# Altium schematic symbol library my_lib.SchLib: 71 symbols
Pins are listed as number, name and electrical type; pins without a type are passive.

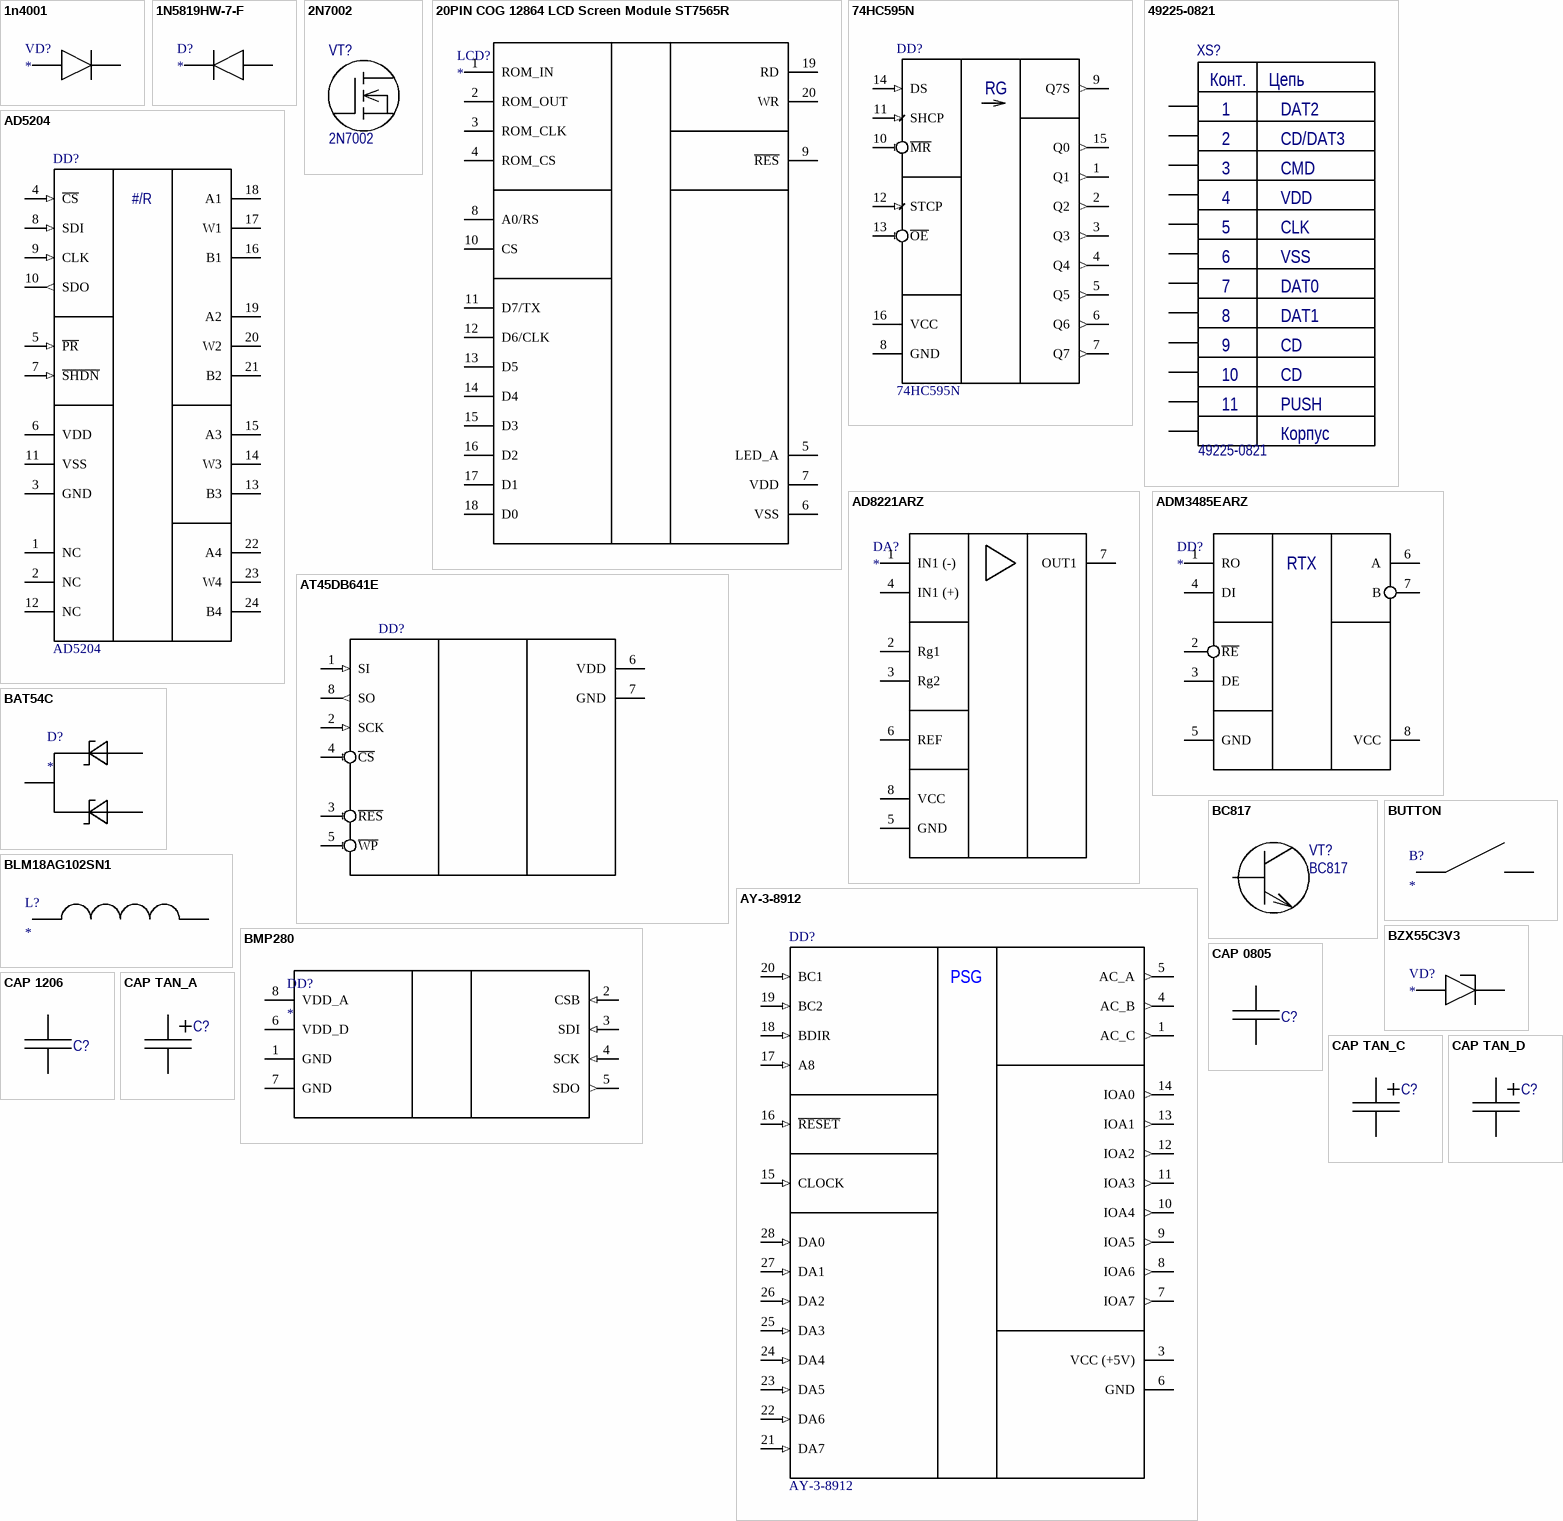
[diagram p0: symbols 1n4001 to CAP TAN_D]

## 1n4001
designator VD?
footprint DIP2PIN1CM_D
pins: 1, 2

## 1N5819HW-7-F
designator D?
footprint SOD-123
pins: 1, 2

## 2N7002
designator VT?
60 V, 300 mA N-channel Trench MOSFET; Manufacturer: NXP; Structure: Индуцированный канал n-типа; Type: Транзистор полевой с изолированным затвором; Max gate-to-source voltage: 30 В; Drain-to-source breakdown voltage: 60 В; Gate threshold voltage: 2 В; Max continuous drain current: 300 мА; Max pulsed drain current: 1,2 А; Power dissitipation: 0,83 Вт; Input capacitance: 31 пФ; Output capacitance: 6,8 пФ; Turn-on time: 2,5 нс; Reverse transfer capacitance: 3,5 пФ; Turn-off time: 11 нс; Rds: 2,8 Ом; Temperature range: -65 ... 150 °C
footprint SOT-23
pins: 1 G, 2 S, 3 D

## 20PIN COG 12864 LCD Screen Module ST7565R
designator LCD?
footprint COG 12864 LCD Screen Module ST7565R
pins: 1 ROM_IN, 2 ROM_OUT, 3 ROM_CLK, 4 ROM_CS, 5 LED_A, 6 VSS, 7 VDD, 8 A0/RS, 9 ~{RES}, 10 CS, 11 D7/TX, 12 D6/CLK, 13 D5, 14 D4, 15 D3, 16 D2, 17 D1, 18 D0, 19 RD, 20 WR

## 74HC595N
designator DD?
footprint SO16 (SOP, 16-Leads, Body 10,0x4,0mm (max), Pitch 1,27mm, IPC Medium Density)
pins: 1 Q1 (out), 2 Q2 (out), 3 Q3 (out), 4 Q4 (out), 5 Q5 (out), 6 Q6 (out), 7 Q7 (out), 8 GND (power), 9 Q7S (out), 10 ~{MR} (in), 11 SHCP (in), 12 STCP (in), 13 ~{OE} (in), 14 DS (in), 15 Q0 (out), 16 VCC (power)
text: RG

## 49225-0821
designator XS?
MOLEX MicroSD connector; Connector type: Разъем MicroSD на плату; Number of contacts: 11; Manufacturer: Molex; Type: Разъем
footprint MOLEX 49225-0821
pins: 0, 1, 2, 3, 4, 5, 6, 7, 8, 9, 10, 11
text: Конт.; Цепь; DAT2; CD/DAT3; CMD; VDD; CLK; VSS; DAT0; DAT1; CD; PUSH; Корпус

## AD5204
designator DD?
footprint SOIC-24 (R-24/SOL-24)
footprint TSSOP-24 (TSOP, 24-Leads, Body 7,80x4,40mm, Pitch 0,65mm, IPC Medium Density)
pins: 1 NC, 2 NC, 3 GND (power), 4 ~{CS} (in), 5 ~{PR} (in), 6 VDD (power), 7 ~{SHDN} (in), 8 SDI (in), 9 CLK (in), 10 SDO (out), 11 VSS (power), 12 NC, 13 B3, 14 W3, 15 A3, 16 B1, 17 W1, 18 A1, 19 A2, 20 W2, 21 B2, 22 A4, 23 W4, 24 B4
text: #/R

## AD8221ARZ
designator DA?
footprint SOIC-8
pins: 1 IN1 (-), 2 Rg1, 3 Rg2, 4 IN1 (+), 5 GND, 6 REF, 7 OUT1, 8 VCC

## ADM3485EARZ
designator DD?
footprint DIP-8
footprint SOIC-8
pins: 1 RO, 2 ~{RE}, 3 DE, 4 DI, 5 GND, 6 A, 7 B, 8 VCC
text: RTX

## AT45DB641E
designator DD?
footprint SOIC127P800X216-8N (SOIC, 8-Leads, Body 5,24x5,29mm, Pitch 1,27mm, IPC Medium Density)
pins: 1 SI (in), 2 SCK (in), 3 ~{RES} (in), 4 ~{CS} (in), 5 ~{WP} (in), 6 VDD (power), 7 GND (power), 8 SO (out)

## AY-3-8912
designator DD?
footprint DIP-28
footprint DIP28_PLUS_MCU
pins: 1 AC_C (out), 3 VCC (+5V) (power), 4 AC_B (out), 5 AC_A (out), 6 GND (power), 7 IOA7 (out), 8 IOA6 (out), 9 IOA5 (out), 10 IOA4 (out), 11 IOA3 (out), 12 IOA2 (out), 13 IOA1 (out), 14 IOA0 (out), 15 CLOCK (in), 16 ~{RESET} (in), 17 A8 (in), 18 BDIR (in), 19 BC2 (in), 20 BC1 (in), 21 DA7 (in), 22 DA6 (in), 23 DA5 (in), 24 DA4 (in), 25 DA3 (in), 26 DA2 (in), 27 DA1 (in), 28 DA0 (in)
text: PSG

## BAT54C
designator D?
footprint SOT-23
pins: 1, 2, 3

## BC817
designator VT?
NPN general-purpose transistor; Manufacturer: NXP; Structure: n-p-n; Type: Транзистор биполярный; hFE: 160 ... 600; Max collector-emitter voltage: 45 В; Max collector-base voltage: 50 В; Max emitter-base voltage: 5 В; Max collector current: 0,5 А; Max collector peak current: 1 А; Power dissitipation: 0,25 Вт; fT: 100 МГц; Collector-emitter saturation voltage: 0,7 В; Base-emitter on voltage: 1,2 В; Specitication: ЭКБ ИП; Collector-base сapacitance: 3 пФ; Complement: BC807; Temperature range: -65 ... 150 °C
footprint SOT-23
pins: 1 B, 2 E, 3 C

## BLM18AG102SN1
designator L?
footprint FB 0603
pins: 1, 2

## BMP280
designator DD?
footprint LGA_2.0_2.5_8PIN (SON, 8-Leads, Body 2,50x2,00mm, Pitch 0,65mm, IPC Medium Density)
pins: 1 GND (power), 2 CSB (in), 3 SDI (in), 4 SCK (in), 5 SDO (out), 6 VDD_D (power), 7 GND (power), 8 VDD_A (power)

## BUTTON
designator B?
footprint BUTTON_SMD
footprint TACT SKHH Horizontal Switch
footprint BUTTON_DIP
pins: 1, 2

## BZX55C3V3
designator VD?
footprint DO-204AH
pins: 1, 2

## CAP 0805
designator C?  (value not drawn)
SMD Capacitor 0805; Manufacturer: /Укажите компанию-производителя/; Tolerance: /Укажите допуск в процентах/; Temperature coefficient: /Формат: ±? ppm/°C/; Type: Конденсатор керамический; TC: /Укажите тип диэлектрика/; Size: 0805; Temperature range: /Формат: -? ... ? °C/
footprint C 0805
pins: 1, 2

## CAP 1206
designator C?, comment /Укажите код маркировки/  (value not drawn)
SMD Capacitor 1206; Manufacturer: /Укажите компанию-производителя/; Tolerance: /Укажите допуск в процентах/; Temperature coefficient: /Формат: ±? ppm/°C/; Type: Конденсатор керамический; TC: /Укажите тип диэлектрика/; Size: 1206; Temperature range: /Формат: -? ... ? °C/
footprint C 1206
pins: 1, 2

## CAP TAN_A
designator C?, comment /Укажите код маркировки/  (value not drawn)
SMD Tantalium Capacitor A; Type: Конденсатор танталовый; Rated voltage: 10 В; Size: A
footprint C TAN_A
pins: 1, 2

## CAP TAN_C
designator C?, comment /Укажите код маркировки/  (value not drawn)
SMD Tantalium Capacitor C; Type: Конденсатор танталовый; Size: C
footprint C TAN_C
pins: 1, 2

## CAP TAN_D
designator C?, comment /Укажите код маркировки/  (value not drawn)
SMD Tantalium Capacitor D; Type: Конденсатор танталовый; Size: D
footprint C TAN_D
pins: 1, 2

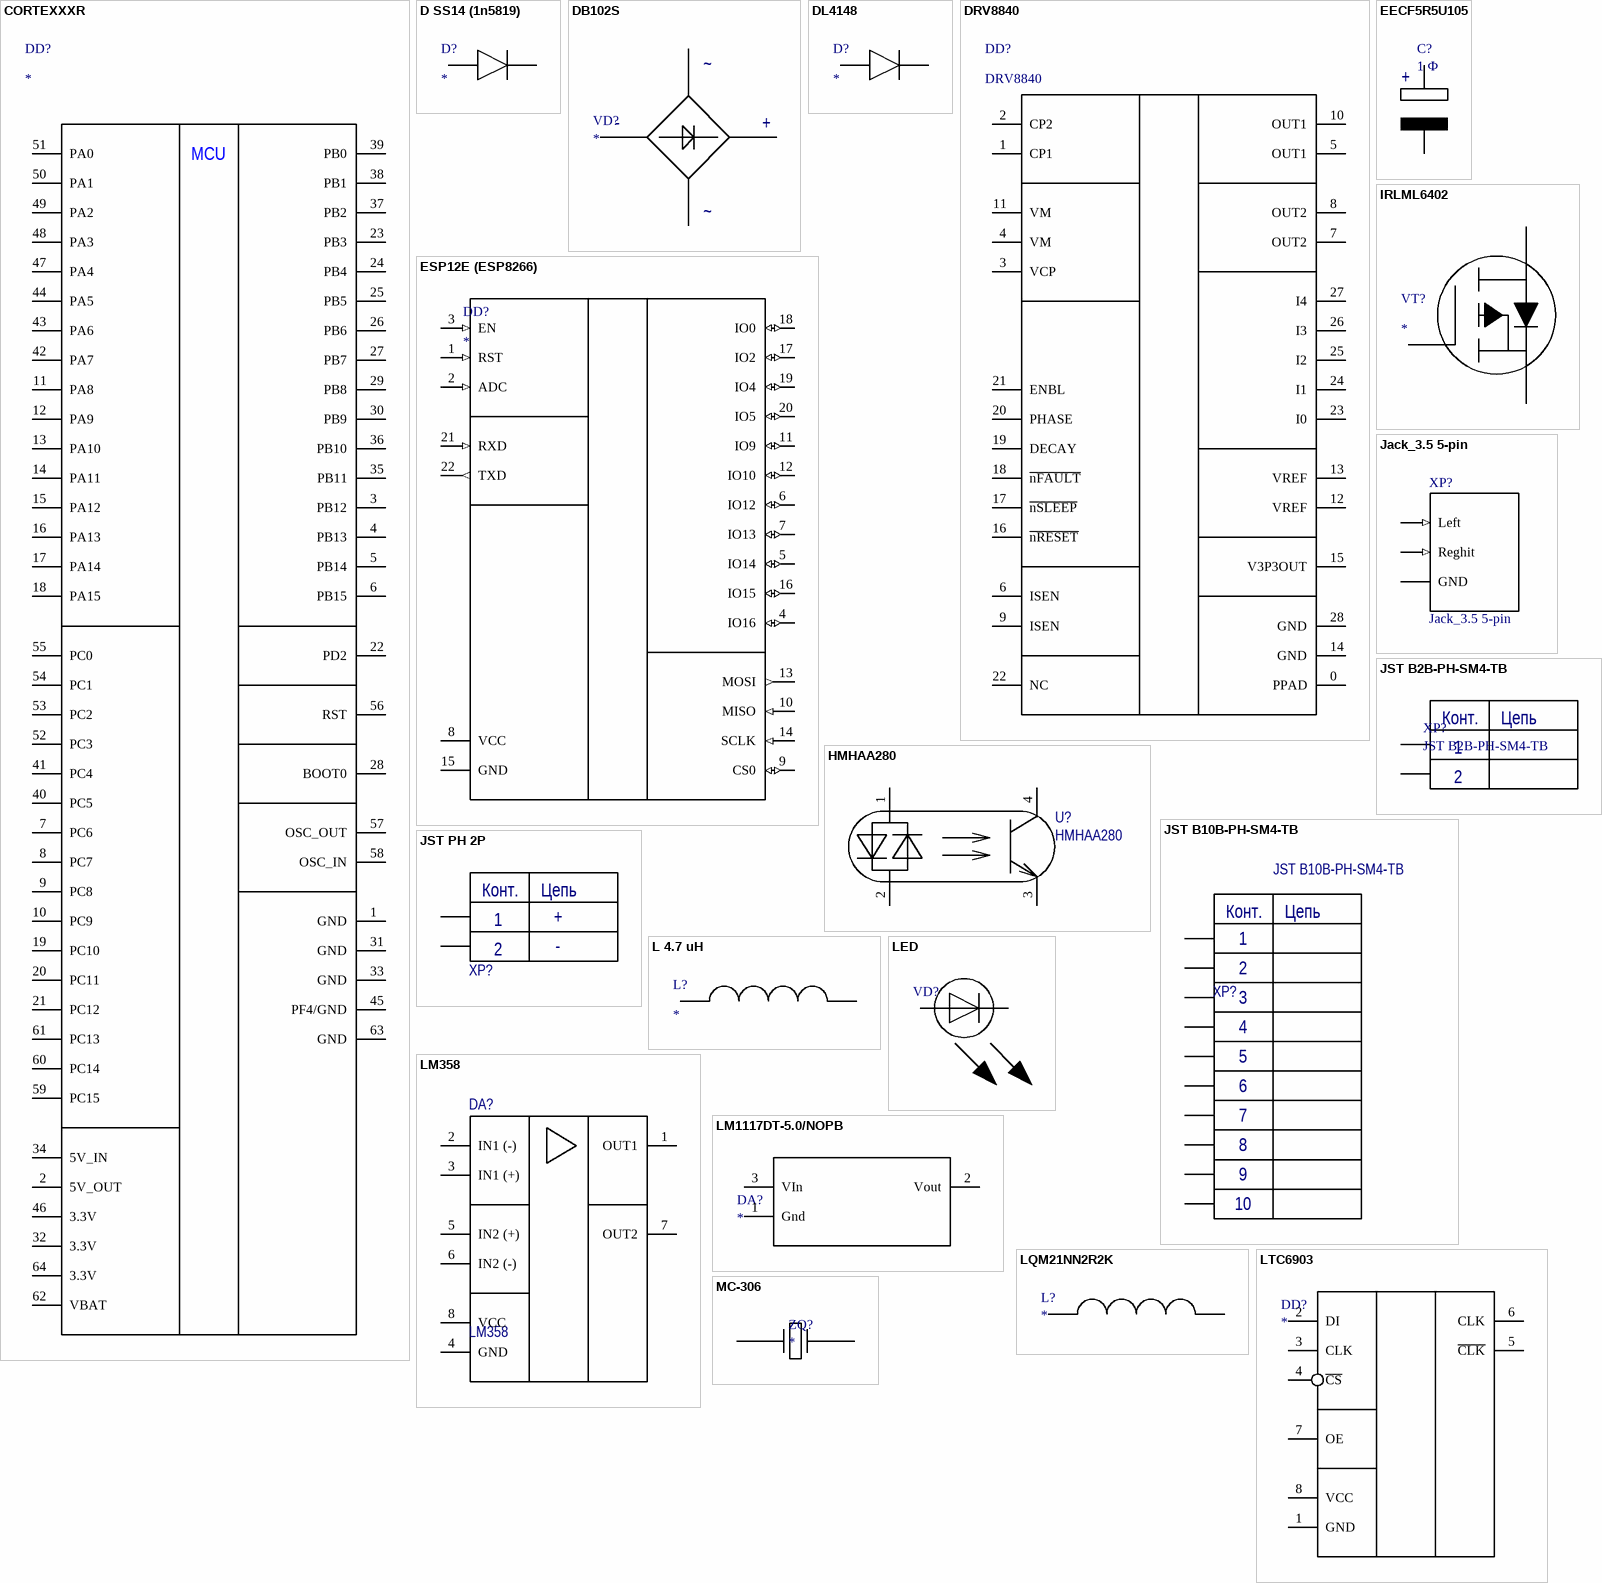
[diagram p1: symbols CORTEXXXR to MC-306]

## CORTEXXXR
designator DD?
footprint COREXXXR
pins: 1 GND, 2 5V_OUT, 3 PB12, 4 PB13, 5 PB14, 6 PB15, 7 PC6, 8 PC7, 9 PC8, 10 PC9, 11 PA8, 12 PA9, 13 PA10, 14 PA11, 15 PA12, 16 PA13, 17 PA14, 18 PA15, 19 PC10, 20 PC11, 21 PC12, 22 PD2, 23 PB3, 24 PB4, 25 PB5, 26 PB6, 27 PB7, 28 BOOT0, 29 PB8, 30 PB9, 31 GND, 32 3.3V, 33 GND, 34 5V_IN, 35 PB11, 36 PB10, 37 PB2, 38 PB1, 39 PB0, 40 PC5, 41 PC4, 42 PA7, 43 PA6, 44 PA5, 45 PF4/GND, 46 3.3V, 47 PA4, 48 PA3, 49 PA2, 50 PA1, 51 PA0, 52 PC3, 53 PC2, 54 PC1, 55 PC0, 56 RST, 57 OSC_OUT, 58 OSC_IN, 59 PC15, 60 PC14, 61 PC13, 62 VBAT, 63 GND, 64 3.3V
text: MCU

## D SS14 (1n5819)
designator D?
footprint SMA/DO-214AC
pins: A, C

## DB102S
designator VD?
footprint DB-1S
pins: 1, 2, 3, 4
text: ~; -; +

## DL4148
designator D?
footprint DL-35
pins: A, C

## DRV8840
designator DD?
footprint HTSSOP-28
pins: 0 PPAD, 1 CP1, 2 CP2, 3 VCP, 4 VM, 5 OUT1, 6 ISEN, 7 OUT2, 8 OUT2, 9 ISEN, 10 OUT1, 11 VM, 12 VREF, 13 VREF, 14 GND, 15 V3P3OUT, 16 ~{nRESET}, 17 ~{nSLEEP}, 18 ~{nFAULT}, 19 DECAY, 20 PHASE, 21 ENBL, 22 NC, 23 I0, 24 I1, 25 I2, 26 I3, 27 I4, 28 GND

## EECF5R5U105
designator C?, comment 1 Ф
EECF5R5U105, 1 Ф, 5.5 В, 5 мм, 2208H, Ионистор
footprint EECF5R5U105 (EECF5R5U105, 1 Ф, 5.5 В, 5 мм, 2208H, Ионистор)
pins: 1, 2
text: +

## ESP12E (ESP8266)
designator DD?
footprint ESP-12E (ESP8266)
pins: 1 RST (in), 2 ADC (in), 3 EN (in), 4 IO16 (io), 5 IO14 (io), 6 IO12 (io), 7 IO13 (io), 8 VCC (power), 9 CS0 (io), 10 MISO (in), 11 IO9 (io), 12 IO10 (io), 13 MOSI (out), 14 SCLK (in), 15 GND (power), 16 IO15 (io), 17 IO2 (io), 18 IO0 (io), 19 IO4 (io), 20 IO5 (io), 21 RXD (in), 22 TXD (out)

## HMHAA280
designator U?
AC Input Half Pitch Mini-Flat Package 4-pin Optocoupler; Manufacturer: Fairchild Semiconductor; Emitter forward voltage: 1,4 В; Emitter power dissitipation: 60 мВт; Isolation voltage: 3750 В; Detector collector current: 50 мА; Emitter reverse voltage: 6 В; Detector collector-emitter voltage: 80 В; Detector power dissitipation: 150 мВт; Temperature range: -55 ... 100 °C; Type: Оптрон; Emitter forward current: 50 мА
footprint MFP-4L
pins: 1 AC, 2 CA, 3 E, 4 C

## IRLML6402
designator VT?
footprint SOT-23
pins: 1 G, 2 S, 3 D

## Jack_3.5 5-pin
designator XP?
footprint JACK 3.5 SMD
footprint JACK 3.5 DIP
pins: G GND (power), L Left (in), R Reghit (in)

## JST B2B-PH-SM4-TB
designator XP?
footprint JST B2B-PH-SM4-TB
pins: 1, 2
text: Конт.; Цепь

## JST B10B-PH-SM4-TB
designator XP?
PLS connector; Manufacturer: NONAME; Connector type: Вилка на плату; Number of contacts: 10; Type: Разъем штыревой
footprint B10B-PH-SM4-TB
pins: 1, 2, 3, 4, 5, 6, 7, 8, 9, 10
1 alternate drawing of the same symbol
text: Конт.; Цепь

## JST PH 2P
designator XP?  (value not drawn)
PLS connector; Manufacturer: NONAME; Connector type: Вилка на плату; Number of contacts: 2; Type: Разъем штыревой
footprint JST 2.0 РН 2
pins: 1, 2
1 alternate drawing of the same symbol
text: Конт.; Цепь; +; -

## L 4.7 uH
designator L?
Катушка индуктивности 4.7 мкГн корпус CD43 (индуктивность 4.7 uH).
footprint CD43 (Для катушки индуктивности.)
pins: 1, 2

## LED
designator VD?  (value not drawn)
footprint LED 0805
pins: 1, 2

## LM358
designator DA?
footprint SOP-8
footprint DIP-8
pins: 1 OUT1, 2 IN1 (-), 3 IN1 (+), 4 GND, 5 IN2 (+), 6 IN2 (-), 7 OUT2, 8 VCC

## LM1117DT-5.0/NOPB
designator DA?
footprint TO-252
pins: 1 Gnd, 2 Vout, 3 VIn

## LQM21NN2R2K
designator L?
footprint LQM21N ((0805 Size))
pins: 1, 2

## LTC6903
designator DD?
footprint MSOP_MS8
pins: 1 GND, 2 DI, 3 CLK, 4 ~{CS}, 5 ~{CLK}, 6 CLK, 7 OE, 8 VCC

## MC-306
designator ZQ?
footprint MC-306
pins: 1, 4

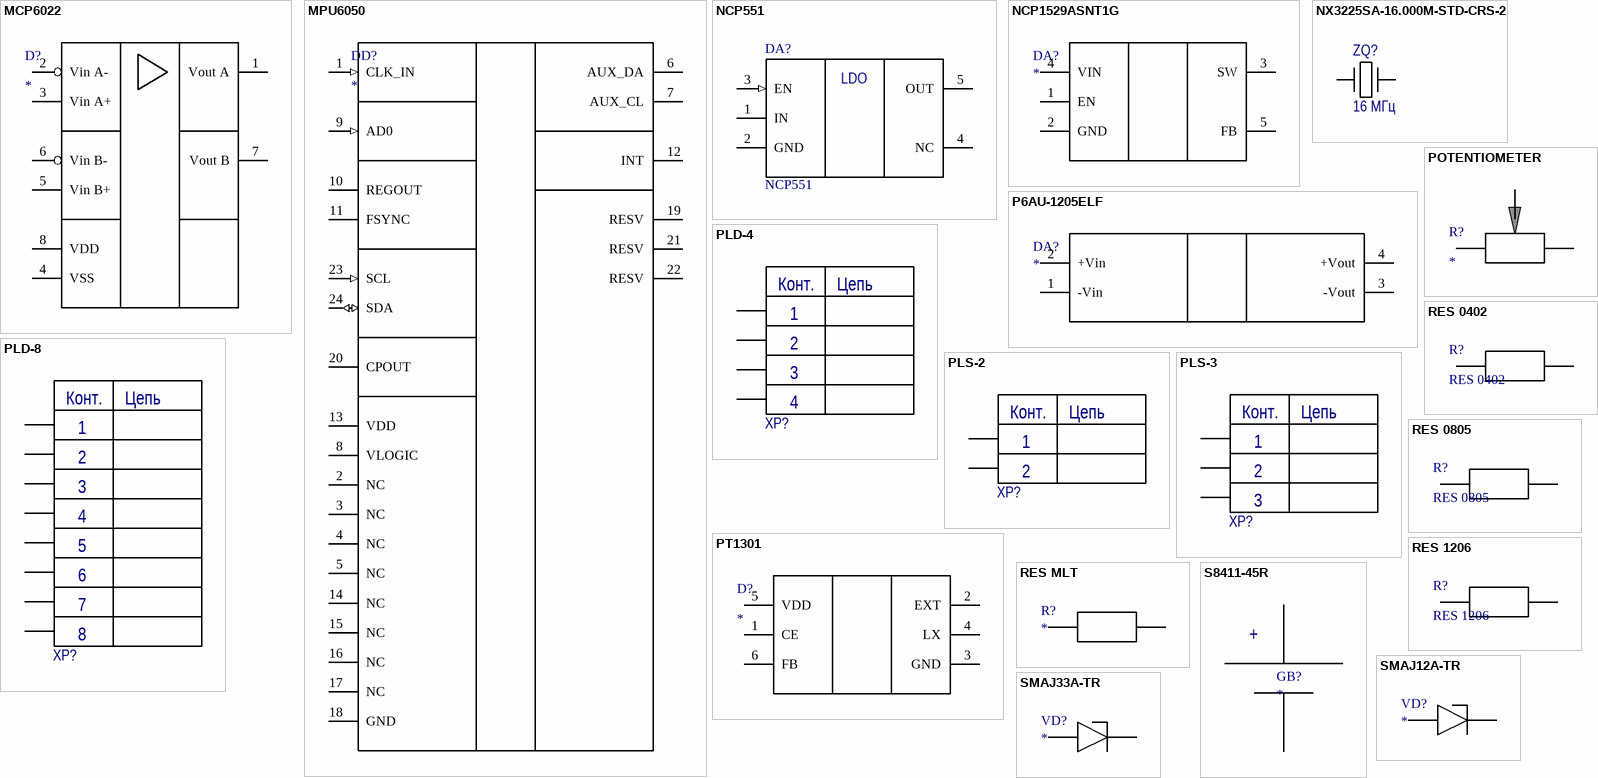
[diagram p2: symbols MCP6022 to SMAJ33A-TR]

## MCP6022
designator D?
footprint SOIC-8
pins: 1 Vout A, 2 Vin A-, 3 Vin A+, 4 VSS (power), 5 Vin B+, 6 Vin B-, 7 Vout B, 8 VDD (power)

## MPU6050
designator DD?
footprint QFN50P400X400X95_HS-25N (QFN, 24-Leads, Body 4,00x4,00mm, Pitch 0,50mm, Thermal Pad 2,70x2,70mm, IPC Medium Density)
pins: 1 CLK_IN (in), 2 NC, 3 NC, 4 NC, 5 NC, 6 AUX_DA, 7 AUX_CL, 8 VLOGIC (power), 9 AD0 (in), 10 REGOUT, 11 FSYNC, 12 INT (oc), 13 VDD (power), 14 NC, 15 NC, 16 NC, 17 NC, 18 GND (power), 19 RESV, 20 CPOUT, 21 RESV, 22 RESV, 23 SCL (in), 24 SDA (io)

## NCP551
designator DA?
footprint TSOP-5 (TSOP, 6-Leads, Body 3,00x1,50mm, Pitch 0,95mm, IPC Medium Density)
pins: 1 IN, 2 GND, 3 EN (in), 4 NC, 5 OUT
text: LDO

## NCP1529ASNT1G
designator DA?
footprint TSOP-5
pins: 1 EN, 2 GND, 3 SW, 4 VIN, 5 FB

## NX3225SA-16.000M-STD-CRS-2
designator ZQ?  value 16 МГц  (hidden comment: NX3225SA-16.000M-STD-CRS-2)
QUARTZ CRYSTAL; Manufacturer: NDK; Load capacitance: 8 пФ; Frequency stability: ±15 ppm; Type: Кварцевый резонатор; Temperature range: -40 ... 125 °C
footprint NX3225SA
pins: 1 XI, 2 NC hidden, 3 XO, 4 NC hidden

## P6AU-1205ELF
designator DA?
footprint P6AU-1205ELF
pins: 1 -Vin, 2 +Vin, 3 -Vout, 4 +Vout

## PLD-4
designator XP?  (value not drawn)
PLD connector; Manufacturer: NONAME; Connector type: Вилка на плату; Number of contacts: 4; Type: Разъем штыревой
footprint PLD-4
footprint PLD-4 1.27
pins: 1, 2, 3, 4
1 alternate drawing of the same symbol
text: Конт.; Цепь

## PLD-8
designator XP?  (value not drawn)
PLD connector; Manufacturer: NONAME; Connector type: Вилка на плату; Number of contacts: 8; Type: Разъем штыревой
footprint PLD-8
footprint PLD-8 1.27
pins: 1, 2, 3, 4, 5, 6, 7, 8
1 alternate drawing of the same symbol
text: Конт.; Цепь

## PLS-2
designator XP?  (value not drawn)
PLS connector; Manufacturer: NONAME; Connector type: Вилка на плату; Number of contacts: 2; Type: Разъем штыревой
footprint PLS-2
footprint PLS-2 1.27
pins: 1, 2
1 alternate drawing of the same symbol
text: Конт.; Цепь

## PLS-3
designator XP?  (value not drawn)
PLS connector; Manufacturer: NONAME; Connector type: Вилка на плату; Number of contacts: 3; Type: Разъем штыревой
footprint PLS-3
footprint PLS-3 1.27
pins: 1, 2, 3
1 alternate drawing of the same symbol
text: Конт.; Цепь

## POTENTIOMETER
designator R?
footprint potentiometer_dip
pins: 1, 2, 3

## PT1301
designator D?
DC-DC step-up (повышающий) PT1301 в корпусе SOT23-6.
footprint SOT-23-6
pins: 1 CE, 2 EXT, 3 GND, 4 LX, 5 VDD, 6 FB

## RES 0402
designator R?
footprint RES 0402
pins: 1, 2

## RES 0805
designator R?
footprint RES 0805
pins: 1, 2

## RES 1206
designator R?
footprint RES 1206
pins: 1, 2

## RES MLT
designator R?
footprint MLT-1
pins: 1, 2

## S8411-45R
designator GB?
footprint S8411-45R
pins: 1, 2
text: +

## SMAJ12A-TR
designator VD?
footprint DO-214AC
pins: 1, 2

## SMAJ33A-TR
designator VD?
pins: 1, 2

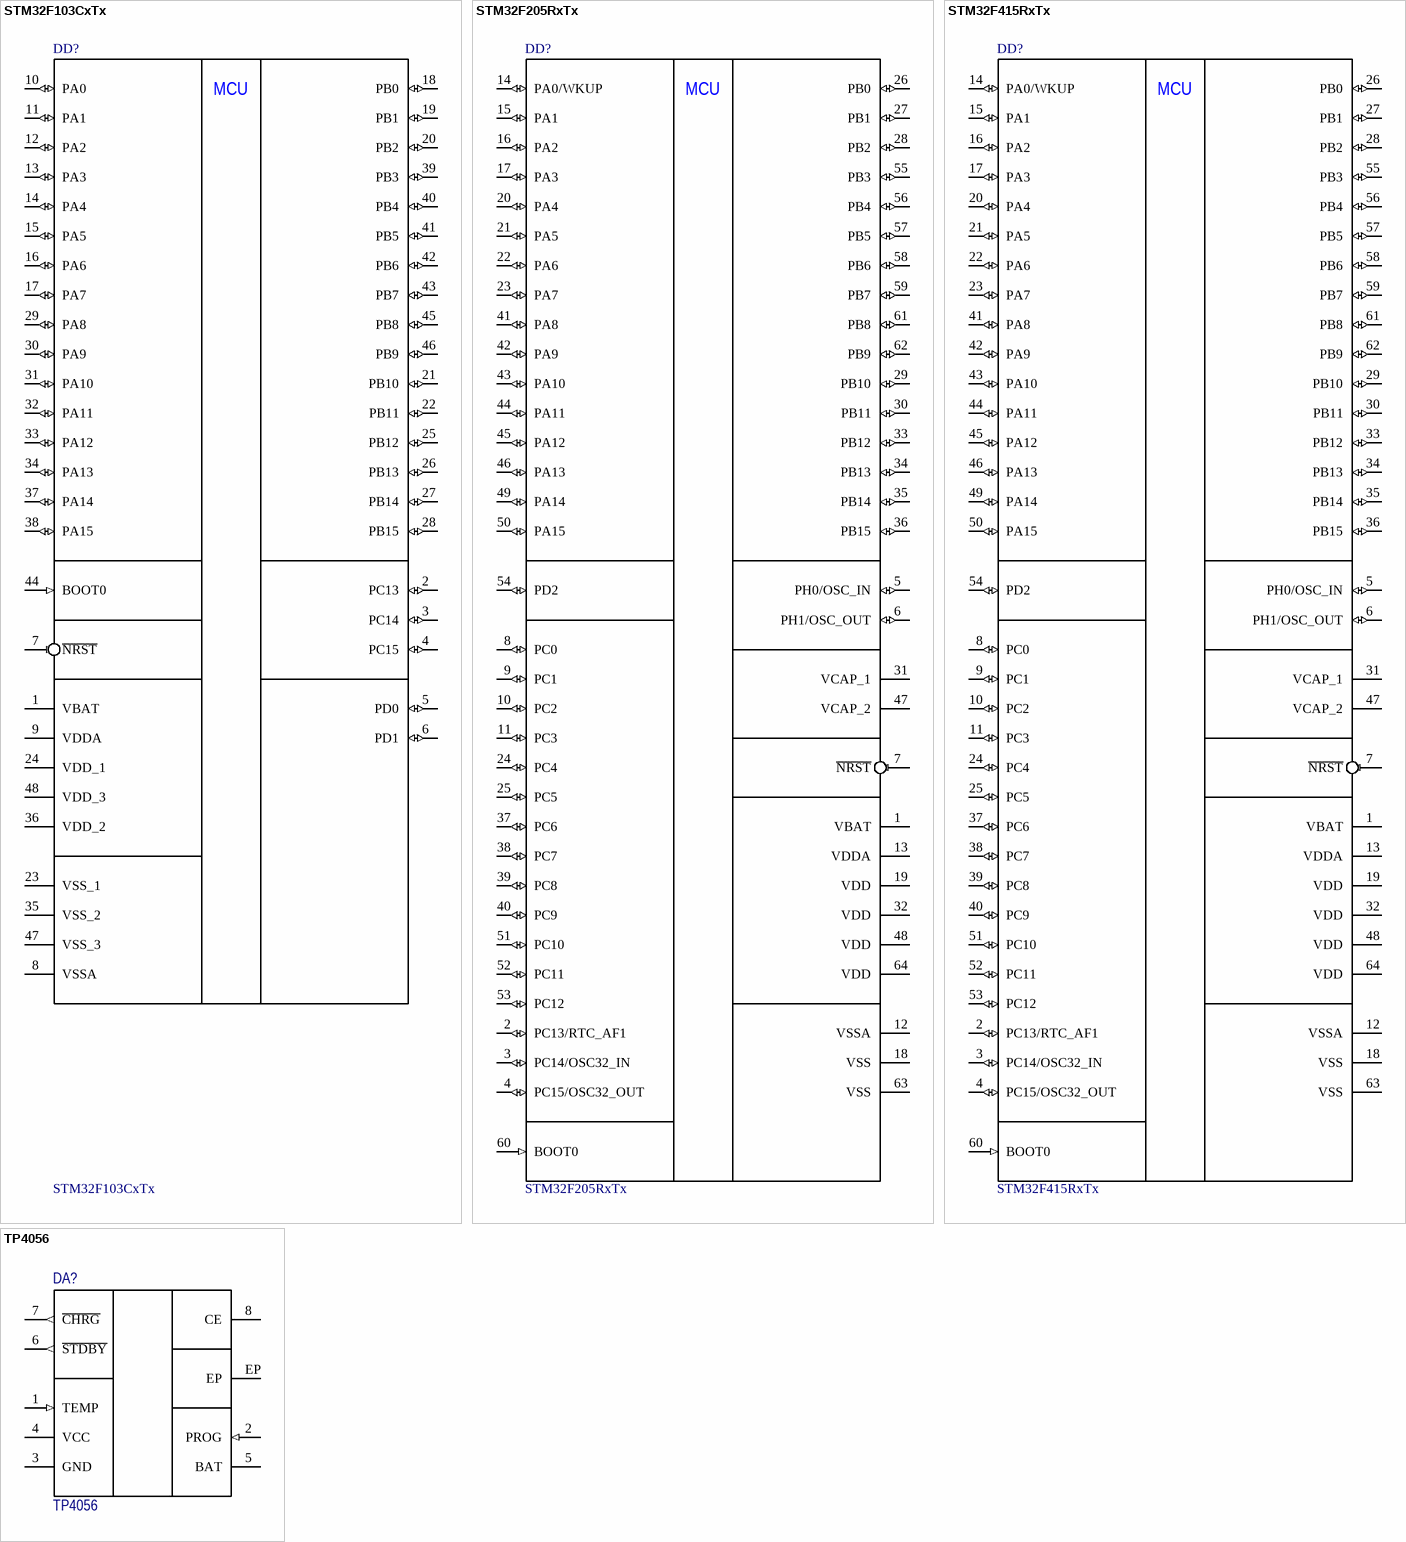
[diagram p3: symbols STM32F103CxTx to TP4056]

## STM32F103CxTx
designator DD?
footprint TSQFP50P900X900X160-48N (TSQFP, 48-Leads, Body 7,00x7,00mm, Pitch 0,50mm, IPC Medium Density)
pins: 1 VBAT (power), 2 PC13 (io), 3 PC14 (io), 4 PC15 (io), 5 PD0 (io), 6 PD1 (io), 7 ~{NRST} (in), 8 VSSA (power), 9 VDDA (power), 10 PA0 (io), 11 PA1 (io), 12 PA2 (io), 13 PA3 (io), 14 PA4 (io), 15 PA5 (io), 16 PA6 (io), 17 PA7 (io), 18 PB0 (io), 19 PB1 (io), 20 PB2 (io), 21 PB10 (io), 22 PB11 (io), 23 VSS_1 (power), 24 VDD_1 (power), 25 PB12 (io), 26 PB13 (io), 27 PB14 (io), 28 PB15 (io), 29 PA8 (io), 30 PA9 (io), 31 PA10 (io), 32 PA11 (io), 33 PA12 (io), 34 PA13 (io), 35 VSS_2 (power), 36 VDD_2 (power), 37 PA14 (io), 38 PA15 (io), 39 PB3 (io), 40 PB4 (io), 41 PB5 (io), 42 PB6 (io), 43 PB7 (io), 44 BOOT0 (in), 45 PB8 (io), 46 PB9 (io), 47 VSS_3 (power), 48 VDD_3 (power)
text: MCU

## STM32F205RxTx
designator DD?
footprint LQFP64 (LQFP64 - 64-pin, 10 x 10 mm)
pins: 1 VBAT (power), 2 PC13/RTC_AF1 (io), 3 PC14/OSC32_IN (io), 4 PC15/OSC32_OUT (io), 5 PH0/OSC_IN (io), 6 PH1/OSC_OUT (io), 7 ~{NRST} (in), 8 PC0 (io), 9 PC1 (io), 10 PC2 (io), 11 PC3 (io), 12 VSSA (power), 13 VDDA (power), 14 PA0/WKUP (io), 15 PA1 (io), 16 PA2 (io), 17 PA3 (io), 18 VSS (power), 19 VDD (power), 20 PA4 (io), 21 PA5 (io), 22 PA6 (io), 23 PA7 (io), 24 PC4 (io), 25 PC5 (io), 26 PB0 (io), 27 PB1 (io), 28 PB2 (io), 29 PB10 (io), 30 PB11 (io), 31 VCAP_1 (power), 32 VDD (power), 33 PB12 (io), 34 PB13 (io), 35 PB14 (io), 36 PB15 (io), 37 PC6 (io), 38 PC7 (io), 39 PC8 (io), 40 PC9 (io), 41 PA8 (io), 42 PA9 (io), 43 PA10 (io), 44 PA11 (io), 45 PA12 (io), 46 PA13 (io), 47 VCAP_2 (power), 48 VDD (power), 49 PA14 (io), 50 PA15 (io), 51 PC10 (io), 52 PC11 (io), 53 PC12 (io), 54 PD2 (io), 55 PB3 (io), 56 PB4 (io), 57 PB5 (io), 58 PB6 (io), 59 PB7 (io), 60 BOOT0 (in), 61 PB8 (io), 62 PB9 (io), 63 VSS (power), 64 VDD (power)
text: MCU

## STM32F415RxTx
designator DD?
footprint LQFP64 (LQFP64 - 64-pin, 10 x 10 mm)
pins: 1 VBAT (power), 2 PC13/RTC_AF1 (io), 3 PC14/OSC32_IN (io), 4 PC15/OSC32_OUT (io), 5 PH0/OSC_IN (io), 6 PH1/OSC_OUT (io), 7 ~{NRST} (in), 8 PC0 (io), 9 PC1 (io), 10 PC2 (io), 11 PC3 (io), 12 VSSA (power), 13 VDDA (power), 14 PA0/WKUP (io), 15 PA1 (io), 16 PA2 (io), 17 PA3 (io), 18 VSS (power), 19 VDD (power), 20 PA4 (io), 21 PA5 (io), 22 PA6 (io), 23 PA7 (io), 24 PC4 (io), 25 PC5 (io), 26 PB0 (io), 27 PB1 (io), 28 PB2 (io), 29 PB10 (io), 30 PB11 (io), 31 VCAP_1 (power), 32 VDD (power), 33 PB12 (io), 34 PB13 (io), 35 PB14 (io), 36 PB15 (io), 37 PC6 (io), 38 PC7 (io), 39 PC8 (io), 40 PC9 (io), 41 PA8 (io), 42 PA9 (io), 43 PA10 (io), 44 PA11 (io), 45 PA12 (io), 46 PA13 (io), 47 VCAP_2 (power), 48 VDD (power), 49 PA14 (io), 50 PA15 (io), 51 PC10 (io), 52 PC11 (io), 53 PC12 (io), 54 PD2 (io), 55 PB3 (io), 56 PB4 (io), 57 PB5 (io), 58 PB6 (io), 59 PB7 (io), 60 BOOT0 (in), 61 PB8 (io), 62 PB9 (io), 63 VSS (power), 64 VDD (power)
text: MCU

## TP4056
designator DA?
footprint HSOP-8 (8-Lead Standard Small Outline Narrow Body Package)
pins: 1 TEMP (in), 2 PROG (in), 3 GND (power), 4 VCC (power), 5 BAT (power), 6 ~{STDBY} (out), 7 ~{CHRG} (out), 8 CE, EP

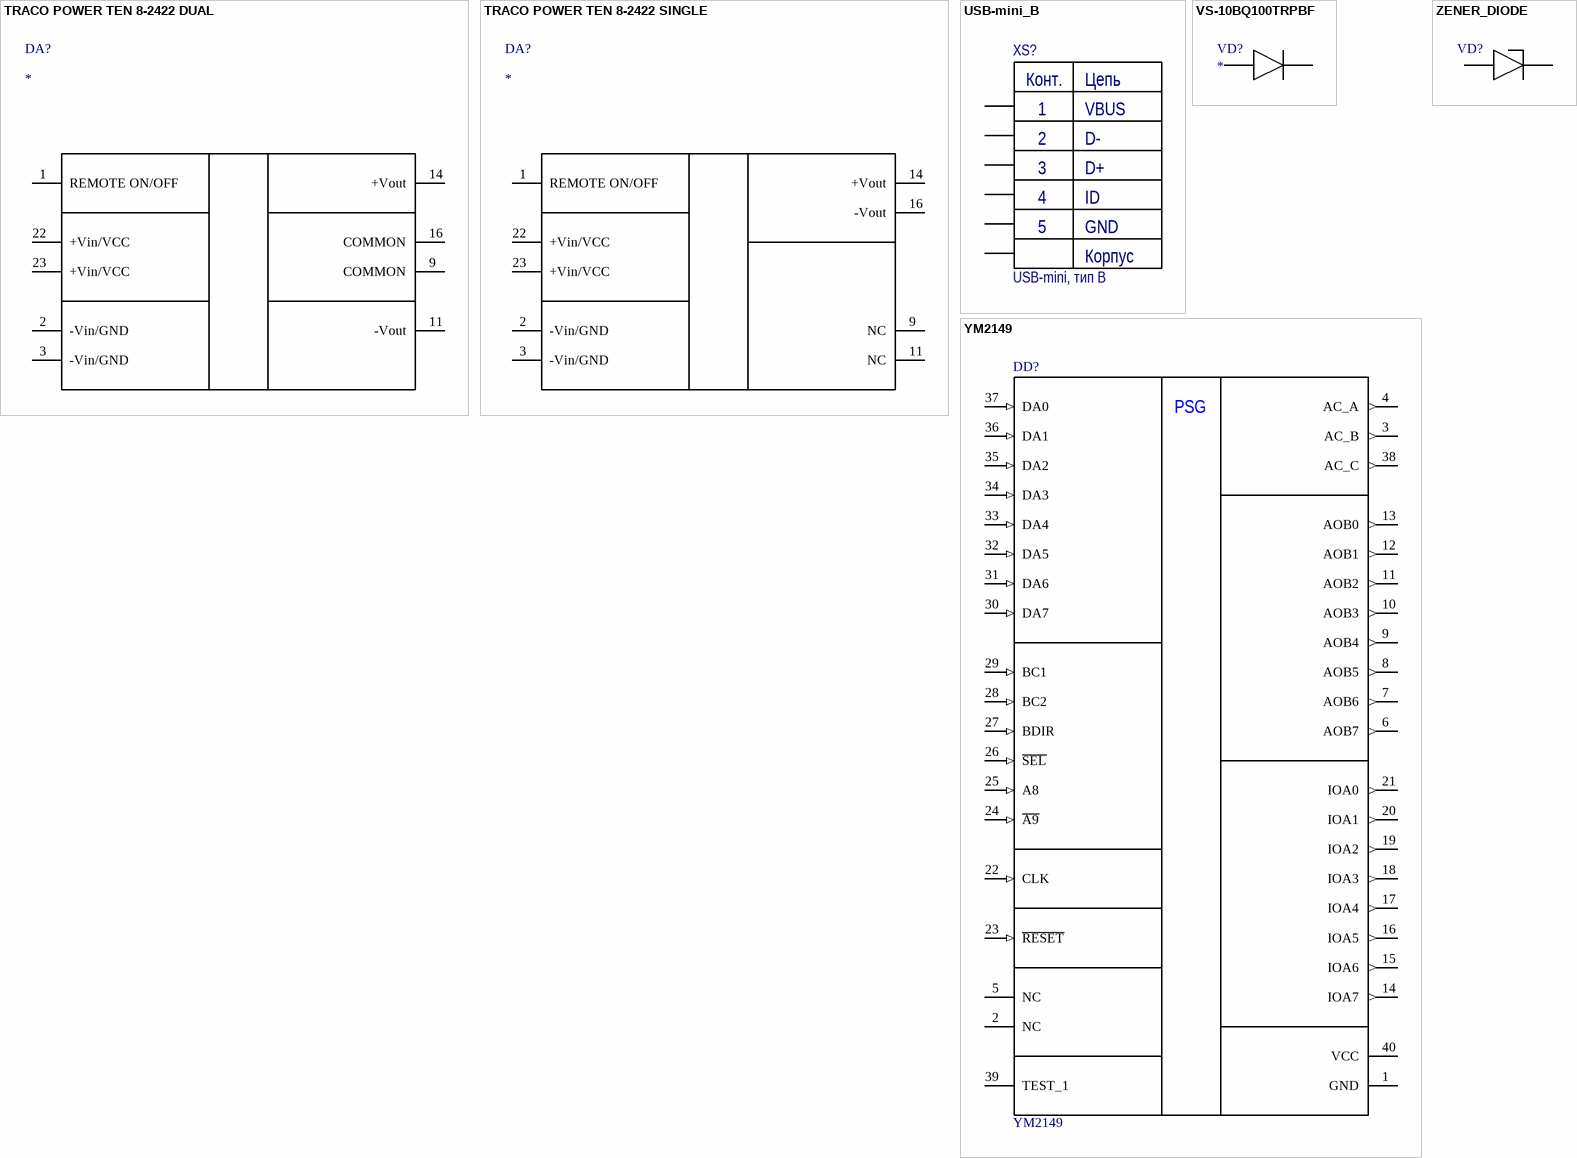
[diagram p4: symbols TRACO POWER TEN 8-2422 DUAL to ZENER_DIODE]

## TRACO POWER TEN 8-2422 DUAL
designator DA?
footprint TRACO POWER TEN 8-2422
pins: 1 REMOTE ON/OFF, 2 -Vin/GND, 3 -Vin/GND, 9 COMMON, 11 -Vout, 14 +Vout, 16 COMMON, 22 +Vin/VCC, 23 +Vin/VCC

## TRACO POWER TEN 8-2422 SINGLE
designator DA?
footprint TRACO POWER TEN 8-2422
pins: 1 REMOTE ON/OFF, 2 -Vin/GND, 3 -Vin/GND, 9 NC, 11 NC, 14 +Vout, 16 -Vout, 22 +Vin/VCC, 23 +Vin/VCC

## USB-mini_B
designator XS?, comment USB-mini, тип B
USB-mini-B connector; Manufacturer: NONAME; Connector type: USB-mini, тип B на плату; Number of contacts: 5; Type: Разъем
footprint USB_mini_B
pins: 0, 1 VBUS, 2 D-, 3 D+, 4 CASE, 5 GND
text: Конт.; Цепь; ID; Корпус

## VS-10BQ100TRPBF
designator VD?
pins: 1, 2

## YM2149
designator DD?
footprint DIP-40
footprint DIP40_PLUS_MCU
pins: 1 GND (power), 2 NC, 3 AC_B (out), 4 AC_A (out), 5 NC, 6 AOB7 (out), 7 AOB6 (out), 8 AOB5 (out), 9 AOB4 (out), 10 AOB3 (out), 11 AOB2 (out), 12 AOB1 (out), 13 AOB0 (out), 14 IOA7 (out), 15 IOA6 (out), 16 IOA5 (out), 17 IOA4 (out), 18 IOA3 (out), 19 IOA2 (out), 20 IOA1 (out), 21 IOA0 (out), 22 CLK (in), 23 ~{RESET} (in), 24 ~{A9} (in), 25 A8 (in), 26 ~{SEL} (in), 27 BDIR (in), 28 BC2 (in), 29 BC1 (in), 30 DA7 (in), 31 DA6 (in), 32 DA5 (in), 33 DA4 (in), 34 DA3 (in), 35 DA2 (in), 36 DA1 (in), 37 DA0 (in), 38 AC_C (out), 39 TEST_1, 40 VCC (power)
text: PSG

## ZENER_DIODE
designator VD?  (value not drawn)
footprint DIP2PIN1CM_ZD
pins: 1, 2